# EAGLE library part UICC_TYPE1 (library UICC_card_reader)
UICC type 1 card holder UMTS UICC and GSM SIM cards have the same form factor and pinout. This card holder (type 1) includes a SIM presence pin.
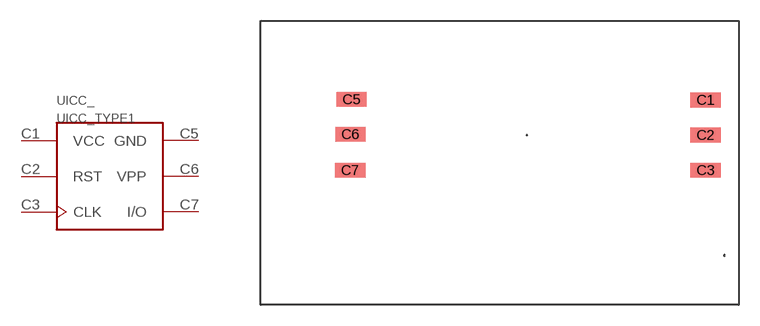
[diagram p0: symbol with the pads of UICC_READER_I; footprint UICC_READER_I]

Designator prefix UICC_

## UICC_TYPE1  [UICC_READER_I]
C1  VCC  pwr
C2  RST  in
C3  CLK  in
C5  GND  sup
C6  VPP  sup
C7  I/O

## Footprint UICC_READER_I (pad centres in mm)
smd 2.184 x 1.067: C1 12.88,2.54; C2 12.88,0; C3 12.88,-2.54; C5 -12.7,2.58; C6 -12.78,0.06; C7 -12.8,-2.54